# Altium footprint library con-molex-mini-fit.PCBLIB: 13 footprints
Each footprint in its own frame and in the unit in brackets; x right, y up, seen from the top. Pads: shape width x height; smd on the part's side, far side on the other; paste and mask are expansions set on the pad; w line width, h text height; cw(c..) or ccw(c..) is an arc to the next point about the centre after c.
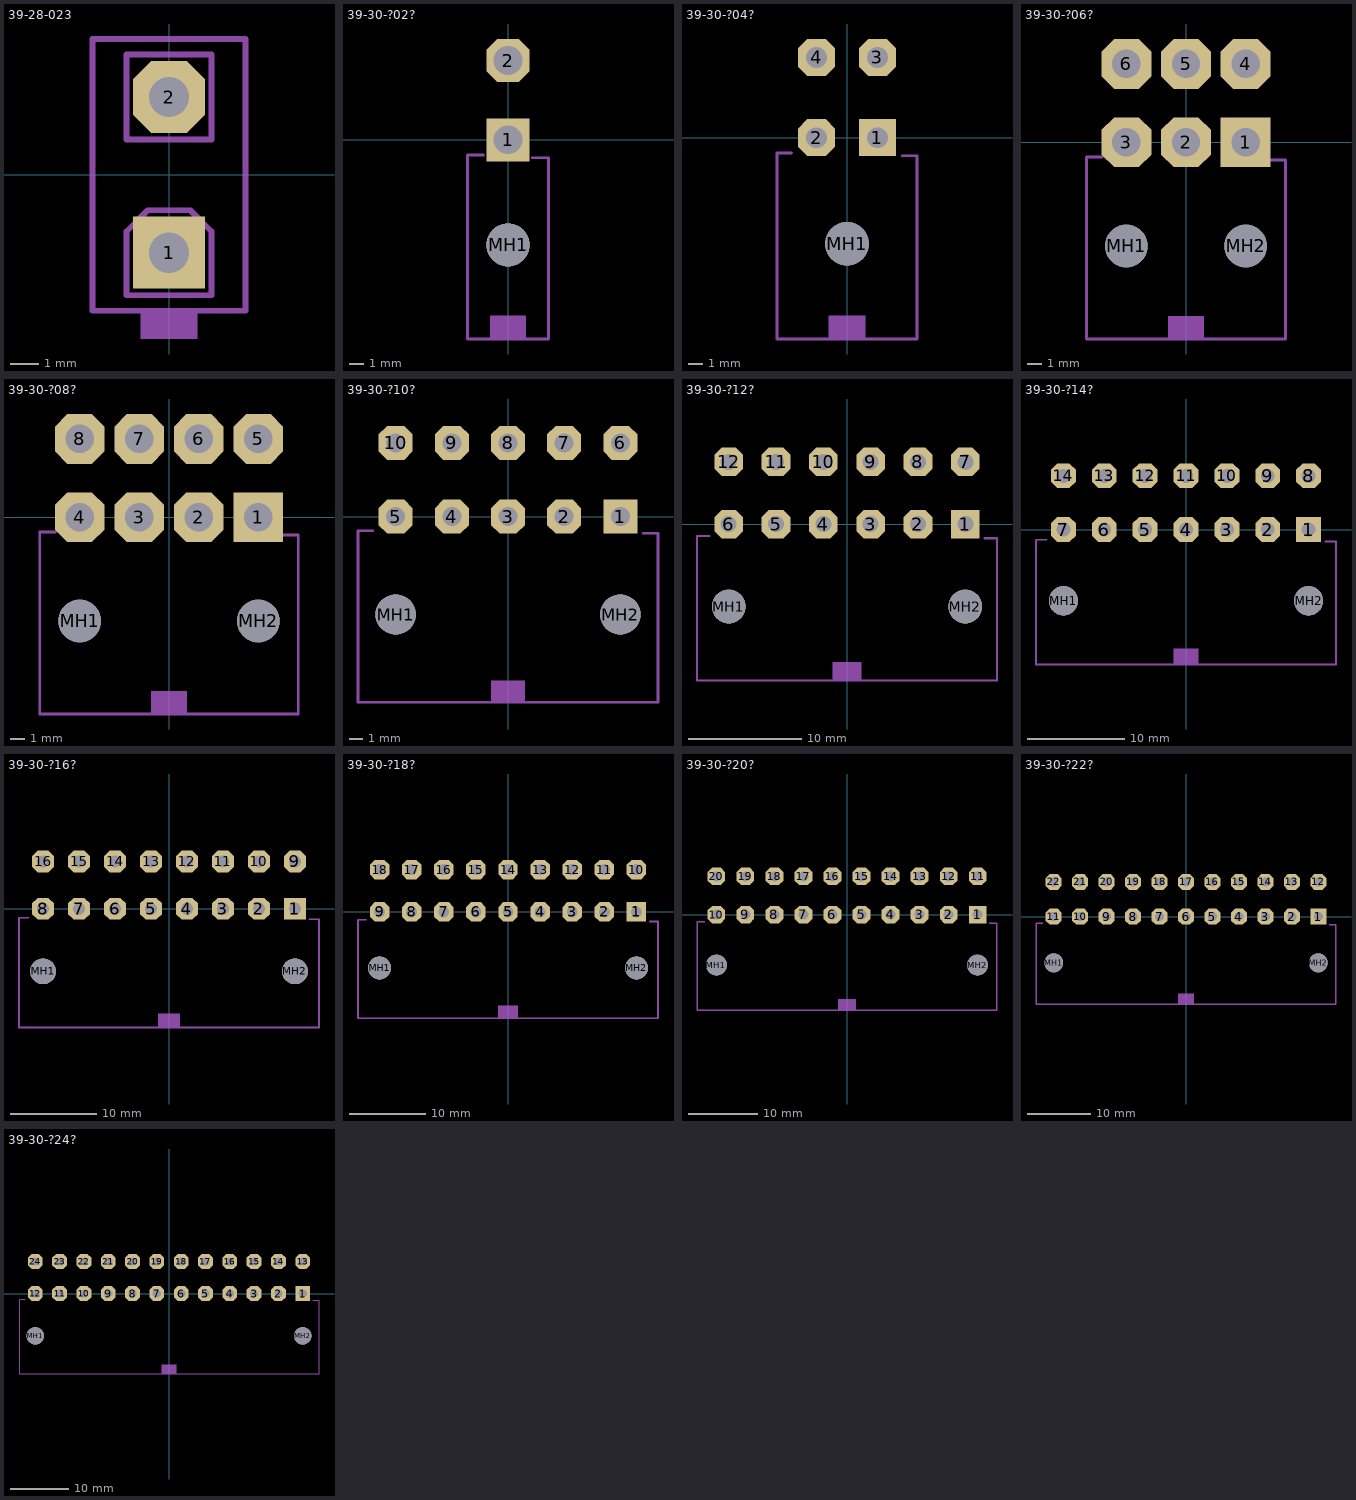
[diagram p0: the footprints below, top view; thin cyan lines are the x and y axes]

## 39-28-023 [mil]
pads (2):
  rect 100x100 / inner round 92.39 / far side rect 100x100 hole 56: 1(0,-108.27)
  oct 100x100 / inner round 92.39 / far side oct 100x100 hole 56: 2(0,108.27)
tDocu:
  lines w8: -59.06,-167.32 59.06,-167.32 59.06,-78.74 29.53,-49.21 -29.53,-49.21 -59.06,-78.74 -59.06,-167.32 ; -59.06,49.21 59.06,49.21 59.06,167.32 -59.06,167.32 -59.06,49.21
tPlace:
  region: -39.37,-228.35 -39.37,-188.98 39.37,-188.98 39.37,-228.35
  lines w8: -106.3,-188.98 106.3,-188.98 106.3,188.98 -106.3,188.98 -106.3,-188.98

## 39-30-?02? [mm]
pads (3):
  rect 3x3 / inner round 2.772 / far side rect 3x3 hole 2: 1(0,0)
  oct 3x3 / inner round 2.772 / far side oct 3x3 hole 2: 2(0,5.512)
  round 3 hole 3 unplated: MH1(0,-7.3)
tPlace:
  region: -1.25,-13.744 -1.25,-12.244 1.25,-12.244 1.25,-13.744
  lines w0.203: -1.709,-1.044 -2.809,-1.044 -2.809,-13.844 2.809,-13.844 2.809,-1.244 1.709,-1.244

## 39-30-?04? [mil]
pads (5):
  rect 100x100 / inner round 92.39 / far side rect 100x100 hole 56: 1(82.5,0)
  oct 100x100 / inner round 92.39 / far side oct 100x100 hole 56: 2(-82.5,0) 3(82.5,217) 4(-82.5,217)
  round 118.11 hole 118.11 unplated: MH1(0,-287.4)
tPlace:
  region: -49.21,-541.11 -49.21,-482.05 49.21,-482.05 49.21,-541.11
  lines w8: -149.78,-41.11 -190,-41.11 -190,-545.04 190,-545.04 190,-48.98 149.78,-48.98

## 39-30-?06? [mm]
pads (8):
  rect 3.5x3.5 / inner round 3.234 / far side rect 3.5x3.5 hole 2: 1(4.191,0)
  oct 3.5x3.5 / inner round 3.234 / far side oct 3.5x3.5 hole 2: 2(0,0) 3(-4.191,0) 4(4.191,5.512) 5(0,5.512) 6(-4.191,5.512)
  round 3 hole 3 unplated: MH1(-4.191,-7.3) MH2(4.191,-7.3)
tPlace:
  region: -1.25,-13.744 -1.25,-12.244 1.25,-12.244 1.25,-13.744
  lines w0.203: -5.9,-1.044 -7,-1.044 -7,-13.844 7,-13.844 7,-1.244 5.9,-1.244

## 39-30-?08? [mil]
pads (10):
  rect 137.8x137.8 / inner round 127.31 / far side rect 137.8x137.8 hole 78.74: 1(247.5,0)
  oct 137.8x137.8 / inner round 127.31 / far side oct 137.8x137.8 hole 78.74: 2(82.5,0) 3(-82.5,0) 4(-247.5,0) 5(247.5,217) 6(82.5,217) 7(-82.5,217) 8(-247.5,217)
  round 118.11 hole 118.11 unplated: MH1(-247.5,-287.4) MH2(247.5,-287.4)
tPlace:
  region: -49.21,-541.11 -49.21,-482.05 49.21,-482.05 49.21,-541.11
  lines w8: -314.78,-41.11 -358.09,-41.11 -358.09,-545.04 358.09,-545.04 358.09,-48.98 314.78,-48.98

## 39-30-?10? [mil]
pads (12):
  rect 100x100 / inner round 92.39 / far side rect 100x100 hole 56: 1(330,0)
  oct 100x100 / inner round 92.39 / far side oct 100x100 hole 56: 2(165,0) 3(0,0) 4(-165,0) 5(-330,0) 6(330,217) 7(165,217) 8(0,217) 9(-165,217) 10(-330,217)
  round 118.11 hole 118.11 unplated: MH1(-330,-287.4) MH2(330,-287.4)
tPlace:
  region: -49.21,-541.11 -49.21,-482.05 49.21,-482.05 49.21,-541.11
  lines w8: -397.28,-41.11 -440.59,-41.11 -440.59,-545.04 440.59,-545.04 440.59,-48.98 397.28,-48.98

## 39-30-?12? [mil]
pads (14):
  rect 100x100 / inner round 92.39 / far side rect 100x100 hole 56: 1(412.5,0)
  oct 100x100 / inner round 92.39 / far side oct 100x100 hole 56: 2(247.5,0) 3(82.5,0) 4(-82.5,0) 5(-247.5,0) 6(-412.5,0) 7(412.5,217) 8(247.5,217) 9(82.5,217) 10(-82.5,217) 11(-247.5,217) 12(-412.5,217)
  round 118.11 hole 118.11 unplated: MH1(-412.5,-287.4) MH2(412.5,-287.4)
tPlace:
  region: -49.21,-541.11 -49.21,-482.05 49.21,-482.05 49.21,-541.11
  lines w8: -479.78,-41.11 -523.09,-41.11 -523.09,-545.04 523.09,-545.04 523.09,-48.98 479.78,-48.98

## 39-30-?14? [mil]
pads (16):
  rect 100x100 / inner round 92.39 / far side rect 100x100 hole 56: 1(495,0)
  oct 100x100 / inner round 92.39 / far side oct 100x100 hole 56: 2(330,0) 3(165,0) 4(0,0) 5(-165,0) 6(-330,0) 7(-495,0) 8(495,217) 9(330,217) 10(165,217) 11(0,217) 12(-165,217) 13(-330,217) 14(-495,217)
  round 118.11 hole 118.11 unplated: MH1(-495,-287.4) MH2(495,-287.4)
tPlace:
  region: -49.21,-541.11 -49.21,-482.05 49.21,-482.05 49.21,-541.11
  lines w8: -562.28,-41.11 -605.59,-41.11 -605.59,-545.04 605.59,-545.04 605.59,-48.98 562.28,-48.98

## 39-30-?16? [mil]
pads (18):
  rect 100x100 / inner round 92.39 / far side rect 100x100 hole 56: 1(577.5,0)
  oct 100x100 / inner round 92.39 / far side oct 100x100 hole 56: 2(412.5,0) 3(247.5,0) 4(82.5,0) 5(-82.5,0) 6(-247.5,0) 7(-412.5,0) 8(-577.5,0) 9(577.5,217) 10(412.5,217) 11(247.5,217) 12(82.5,217) 13(-82.5,217) 14(-247.5,217) 15(-412.5,217) 16(-577.5,217)
  round 118.11 hole 118.11 unplated: MH1(-577.5,-287.4) MH2(577.5,-287.4)
tPlace:
  region: -49.21,-541.11 -49.21,-482.05 49.21,-482.05 49.21,-541.11
  lines w8: -644.78,-41.11 -688.09,-41.11 -688.09,-545.04 688.09,-545.04 688.09,-48.98 644.78,-48.98

## 39-30-?18? [mil]
pads (20):
  rect 100x100 / inner round 92.39 / far side rect 100x100 hole 56: 1(660,0)
  oct 100x100 / inner round 92.39 / far side oct 100x100 hole 56: 2(495,0) 3(330,0) 4(165,0) 5(0,0) 6(-165,0) 7(-330,0) 8(-495,0) 9(-660,0) 10(660,217) 11(495,217) 12(330,217) 13(165,217) 14(0,217) 15(-165,217) 16(-330,217) 17(-495,217) 18(-660,217)
  round 118.11 hole 118.11 unplated: MH1(-660,-287.4) MH2(660,-287.4)
tPlace:
  region: -49.21,-541.11 -49.21,-482.05 49.21,-482.05 49.21,-541.11
  lines w8: -727.28,-41.11 -770.59,-41.11 -770.59,-545.04 770.59,-545.04 770.59,-48.98 727.28,-48.98

## 39-30-?20? [mil]
pads (22):
  rect 100x100 / inner round 92.39 / far side rect 100x100 hole 56: 1(742.5,0)
  oct 100x100 / inner round 92.39 / far side oct 100x100 hole 56: 2(577.5,0) 3(412.5,0) 4(247.5,0) 5(82.5,0) 6(-82.5,0) 7(-247.5,0) 8(-412.5,0) 9(-577.5,0) 10(-742.5,0) 11(742.5,217) 12(577.5,217) 13(412.5,217) 14(247.5,217) 15(82.5,217) 16(-82.5,217) 17(-247.5,217) 18(-412.5,217) 19(-577.5,217) 20(-742.5,217)
  round 118.11 hole 118.11 unplated: MH1(-742.5,-287.4) MH2(742.5,-287.4)
tPlace:
  region: -49.21,-541.11 -49.21,-482.05 49.21,-482.05 49.21,-541.11
  lines w8: -809.78,-41.11 -853.09,-41.11 -853.09,-545.04 853.09,-545.04 853.09,-48.98 809.78,-48.98

## 39-30-?22? [mil]
pads (24):
  rect 100x100 / inner round 92.39 / far side rect 100x100 hole 56: 1(825,0)
  oct 100x100 / inner round 92.39 / far side oct 100x100 hole 56: 2(660,0) 3(495,0) 4(330,0) 5(165,0) 6(0,0) 7(-165,0) 8(-330,0) 9(-495,0) 10(-660,0) 11(-825,0) 12(825,217) 13(660,217) 14(495,217) 15(330,217) 16(165,217) 17(0,217) 18(-165,217) 19(-330,217) 20(-495,217) 21(-660,217) 22(-825,217)
  round 118.11 hole 118.11 unplated: MH1(-825,-287.4) MH2(825,-287.4)
tPlace:
  region: -49.21,-541.11 -49.21,-482.05 49.21,-482.05 49.21,-541.11
  lines w8: -892.28,-41.11 -935.59,-41.11 -935.59,-545.04 935.59,-545.04 935.59,-48.98 892.28,-48.98

## 39-30-?24? [mil]
pads (26):
  rect 100x100 / inner round 92.39 / far side rect 100x100 hole 56: 1(907.5,0)
  oct 100x100 / inner round 92.39 / far side oct 100x100 hole 56: 2(742.5,0) 3(577.5,0) 4(412.5,0) 5(247.5,0) 6(82.5,0) 7(-82.5,0) 8(-247.5,0) 9(-412.5,0) 10(-577.5,0) 11(-742.5,0) 12(-907.5,0) 13(907.5,217) 14(742.5,217) 15(577.5,217) 16(412.5,217) 17(247.5,217) 18(82.5,217) 19(-82.5,217) 20(-247.5,217) 21(-412.5,217) 22(-577.5,217) 23(-742.5,217) 24(-907.5,217)
  round 118.11 hole 118.11 unplated: MH1(-907.5,-287.4) MH2(907.5,-287.4)
tPlace:
  region: -49.21,-541.11 -49.21,-482.05 49.21,-482.05 49.21,-541.11
  lines w8: -974.78,-41.11 -1018.09,-41.11 -1018.09,-545.04 1018.09,-545.04 1018.09,-48.98 974.78,-48.98